# Altium schematic symbol library U_TUSB2077A.SchLib: 1 symbol
Pins are listed as number, name and electrical type; pins without a type are passive.

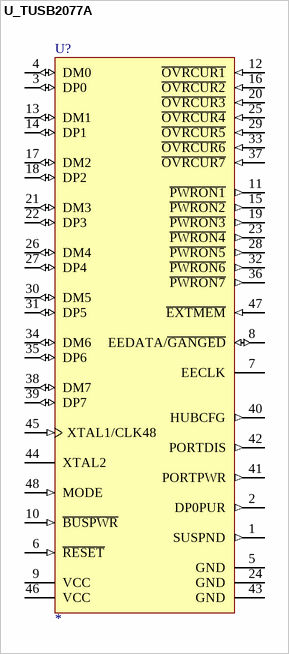
[diagram p0: symbol U_TUSB2077A]

## U_TUSB2077A
designator U?
pins: 1 SUSPND (out) "Suspend status. SUSPND is an active high output available for external logic power-down operations. During the suspend mode, SUSPND is high. SUSPND is low for normal operation.", 2 DP0PUR (out) "Pullup resistor connection. When a system reset happens (R\E\S\E\T\ being driven to low, but not USB reset) or any logic level change on B\U\S\P\W\R\ terminal, DP0PUR output is inactive (floating) until the internal counter (See Datasheet)", 3 DP0 (io) "Root port USB differential data plus. DP0 paired with DM0 constitutes the upstream USB port.", 4 DM0 (io) "Root port USB differential data minus. DM0 paired with DP0 constitutes the upstream USB port", 5 GND (power) "GND terminals must be tied to ground for proper operation.", 6 ~{RESET} (in) "R\E\S\E\T\ is an active low TTL input with hysteresis and must be asserted at power up. When R\E\S\E\T\ is asserted, all logic is initialized. Generally, a reset with a pulse width between 100 \E\S\E\T\ is an active low TTL (See Datasheet)", 7 EECLK (hiz) "EEPROM serial clock. When E\X\T\M\E\M\ is high, the EEPROM interface is disabled. The EECLK terminal is disabled and must be left floating (unconnected). When E\X\T\M\E\M\ is low, EECLK acts as a 3-state serial clock output (See Datasheet)", 8 EEDATA/~{GANGED} (io) "EEPROM serial data/power-management mode indicator. When E\X\T\M\E\M\ is high, EEDATA/GANGED selects between ganged or per-port power overcurrent detection for the downstream ports. When E\X\T\M\E\M\ is low, (See Datasheet)", 9 VCC (power) "3.3-V supply voltage", 10 ~{BUSPWR} (in) "Power source indicator. B\U\S\P\W\R\ is an active-low input that indicates whether the downstream ports source their power from the USB cable or a local power supply. For the bus-power mode, this terminal must be pulled low, (See Datasheet)", 11 ~{PWRON1} (out) "Power-on/-off control signals. P\W\R\O\N\1\-P\W\R\O\N\7\ are active low, push-pull outputs that enables the external power switch device. Push-pull outputs eliminate the pullup resistors which open-drain outputs require. (See Datasheet)", 12 ~{OVRCUR1} (in) "Overcurrent input. O\V\R\C\U\R\1\-O\V\R\C\U\R\7\ are active low. For per-port overcurrent detection, one overcurrent input is available for each of the seven downstream ports. In the ganged mode, any O\V\R\C\U\R\ input may (See Datasheet)", 13 DM1 (io) "USB differential data minus. DM1-DM7 paired with DP1-DP7 support up to four downstream USB ports.", 14 DP1 (io) "USB differential data plus. DP1-DP7 paired with DM1-DM7 support up to four downstream USB ports.", 15 ~{PWRON2} (out) "Power-on/-off control signals. P\W\R\O\N\1\-P\W\R\O\N\7\ are active low, push-pull outputs that enables the external power switch device. Push-pull outputs eliminate the pullup resistors which open-drain outputs require. (See Datasheet)", 16 ~{OVRCUR2} (in) "Overcurrent input. O\V\R\C\U\R\1\-O\V\R\C\U\R\7\ are active low. For per-port overcurrent detection, one overcurrent input is available for each of the seven downstream ports. In the ganged mode, any O\V\R\C\U\R\ input may (See Datasheet)", 17 DM2 (io) "USB differential data minus. DM1-DM7 paired with DP1-DP7 support up to four downstream USB ports.", 18 DP2 (io) "USB differential data plus. DP1-DP7 paired with DM1-DM7 support up to four downstream USB ports.", 19 ~{PWRON3} (out) "Power-on/-off control signals. P\W\R\O\N\1\-P\W\R\O\N\7\ are active low, push-pull outputs that enables the external power switch device. Push-pull outputs eliminate the pullup resistors which open-drain outputs require. (See Datasheet)", 20 ~{OVRCUR3} (in) "Overcurrent input. O\V\R\C\U\R\1\-O\V\R\C\U\R\7\ are active low. For per-port overcurrent detection, one overcurrent input is available for each of the seven downstream ports. In the ganged mode, any O\V\R\C\U\R\ input may (See Datasheet)", 21 DM3 (io) "USB differential data minus. DM1-DM7 paired with DP1-DP7 support up to four downstream USB ports.", 22 DP3 (io) "USB differential data plus. DP1-DP7 paired with DM1-DM7 support up to four downstream USB ports.", 23 ~{PWRON4} (out) "Power-on/-off control signals. P\W\R\O\N\1\-P\W\R\O\N\7\ are active low, push-pull outputs that enables the external power switch device. Push-pull outputs eliminate the pullup resistors which open-drain outputs require. (See Datasheet)", 24 GND (power) "GND terminals must be tied to ground for proper operation.", 25 ~{OVRCUR4} (in) "Overcurrent input. O\V\R\C\U\R\1\-O\V\R\C\U\R\7\ are active low. For per-port overcurrent detection, one overcurrent input is available for each of the seven downstream ports. In the ganged mode, any O\V\R\C\U\R\ input may (See Datasheet)", 26 DM4 (io) "USB differential data minus. DM1-DM7 paired with DP1-DP7 support up to four downstream USB ports.", 27 DP4 (io) "USB differential data plus. DP1-DP7 paired with DM1-DM7 support up to four downstream USB ports.", 28 ~{PWRON5} (out) "Power-on/-off control signals. P\W\R\O\N\1\-P\W\R\O\N\7\ are active low, push-pull outputs that enables the external power switch device. Push-pull outputs eliminate the pullup resistors which open-drain outputs require. (See Datasheet)", 29 ~{OVRCUR5} (in) "Overcurrent input. O\V\R\C\U\R\1\-O\V\R\C\U\R\7\ are active low. For per-port overcurrent detection, one overcurrent input is available for each of the seven downstream ports. In the ganged mode, any O\V\R\C\U\R\ input may (See Datasheet)", 30 DM5 (io) "USB differential data minus. DM1-DM7 paired with DP1-DP7 support up to four downstream USB ports.", 31 DP5 (io) "USB differential data plus. DP1-DP7 paired with DM1-DM7 support up to four downstream USB ports.", 32 ~{PWRON6} (out) "Power-on/-off control signals. P\W\R\O\N\1\-P\W\R\O\N\7\ are active low, push-pull outputs that enables the external power switch device. Push-pull outputs eliminate the pullup resistors which open-drain outputs require. (See Datasheet)", 33 ~{OVRCUR6} (in) "Overcurrent input. O\V\R\C\U\R\1\-O\V\R\C\U\R\7\ are active low. For per-port overcurrent detection, one overcurrent input is available for each of the seven downstream ports. In the ganged mode, any O\V\R\C\U\R\ input may (See Datasheet)", 34 DM6 (io) "USB differential data minus. DM1-DM7 paired with DP1-DP7 support up to four downstream USB ports.", 35 DP6 (io) "USB differential data plus. DP1-DP7 paired with DM1-DM7 support up to four downstream USB ports.", 36 ~{PWRON7} (out) "Power-on/-off control signals. P\W\R\O\N\1\-P\W\R\O\N\7\ are active low, push-pull outputs that enables the external power switch device. Push-pull outputs eliminate the pullup resistors which open-drain outputs require. (See Datasheet)", 37 ~{OVRCUR7} (in) "Overcurrent input. O\V\R\C\U\R\1\-O\V\R\C\U\R\7\ are active low. For per-port overcurrent detection, one overcurrent input is available for each of the seven downstream ports. In the ganged mode, any O\V\R\C\U\R\ input may (See Datasheet)", 38 DM7 (io) "USB differential data minus. DM1-DM7 paired with DP1-DP7 support up to four downstream USB ports.", 39 DP7 (io) "USB differential data plus. DP1-DP7 paired with DM1-DM7 support up to four downstream USB ports.", 40 HUBCFG (out) "Hub configured. Used to control LED indicator. When the hub is configured, HUBCFG is high, which can be used to turn on a green LED. When the hub is not configured, HUBCFG is low, which can be used to turn on a red LED.", 41 PORTPWR (out) "Any port powered. Used to control LED indicator. When any port is powered on, PORTPWR is high, which can be used to turn on a green LED. When all ports are off, PORTPWR is low, which can be used to turn on a red LED.", 42 PORTDIS (out) "No ports disabled. PORTDIS is used for LED indicator control. When no port is disabled, PORTDIS is high, which can be used to turn on a green LED. When any port is disabled, PORTDIS is low, which can be used to turn on a red (See Datasheet)", 43 GND (power) "GND terminals must be tied to ground for proper operation.", 44 XTAL2 "Crystal 2. XTAL2 is a 6-MHz crystal output. This terminal must be left open when using an oscillator", 45 XTAL1/CLK48 (in) "Crystal 1/48-MHz clock input. When MODE is low, XTAL1/CLK48 is a 6-MHz crystal input with 50% duty cycle. An internal APLL generates the 48-MHz and 12-MHz clocks used internally by the ASIC logic. When MODE is high, (See Datasheet)", 46 VCC (power) "3.3-V supply voltage", 47 ~{EXTMEM} (in) "When E\X\T\M\E\M\ is high, the serial EEPROM interface of the device is disabled. When E\X\T\M\E\M\ is low, terminals 7 and 8 are configured as the clock and data terminals of the serial EEPROM interface, respectively.", 48 MODE (in) "Mode select. When MODE is low, the APLL output clock is selected as the clock source to drive the internal core of the chip and 6-MHz crystal or oscillator can used. When MODE is high, the clock on XTAL1/CLK48 is selected as (See Datasheet)"